# Altium schematic symbol library BLM21PG300SN1D.SchLib: 1 symbol
Pins are listed as number, name and electrical type; pins without a type are passive.

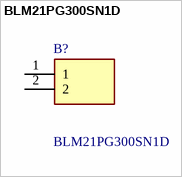
[diagram p0: symbol BLM21PG300SN1D]

## BLM21PG300SN1D
designator B?
30 Ohms @ 100MHz 1 Power Line Ferrite Bead 0805 (2012 Metric) 4A 14mOhm; Manufacturer_Name: Murata Electronics; Geometry.Height: 1.05mm; Manufacturer_Part_Number: BLM21PG300SN1D; Mouser Part Number: 81-BLM21P300S; Mouser Price/Stock: https://www.mouser.co.uk/ProductDetail/Murata-Electronics/BLM21PG300SN1D?qs=vSIcEeo8lXttJMV%2F1g5%2F6A%3D%3D; Arrow Part Number: BLM21PG300SN1D; Arrow Price/Stock: https://www.arrow.com/en/products/blm21pg300sn1d/murata-manufacturing?utm_currency=USD&region=nac; Datasheet Link: https://www.murata.com/en-global/products/productdetail?partno=BLM21PG300SN1%23
footprint BEADC2012X105N
pins: 1, 2